# Altium schematic symbol library TPSM84824MOL.SchLib: 1 symbol
Pins are listed as number, name and electrical type; pins without a type are passive.

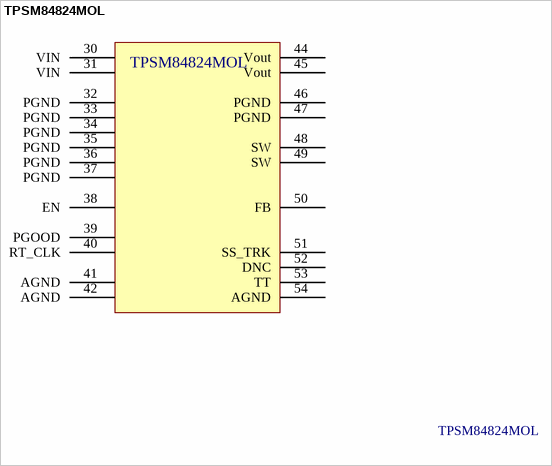
[diagram p0: symbol TPSM84824MOL]

## TPSM84824MOL
designator TPSM84824MOL  (value not drawn)
pins: 30 VIN, 31 VIN, 32 PGND, 33 PGND, 34 PGND, 35 PGND, 36 PGND, 37 PGND, 38 EN, 39 PGOOD, 40 RT_CLK, 41 AGND, 42 AGND, 44 Vout, 45 Vout, 46 PGND, 47 PGND, 48 SW, 49 SW, 50 FB, 51 SS_TRK, 52 DNC, 53 TT, 54 AGND